# Altium footprint library INTAN_AFE_V003.PcbLib: 77 footprints (part 3 of 5)
Each footprint in its own frame and in the unit in brackets; x right, y up, seen from the top. Pads: shape width x height; smd on the part's side, far side on the other; paste and mask are expansions set on the pad; w line width, h text height; cw(c..) or ccw(c..) is an arc to the next point about the centre after c.
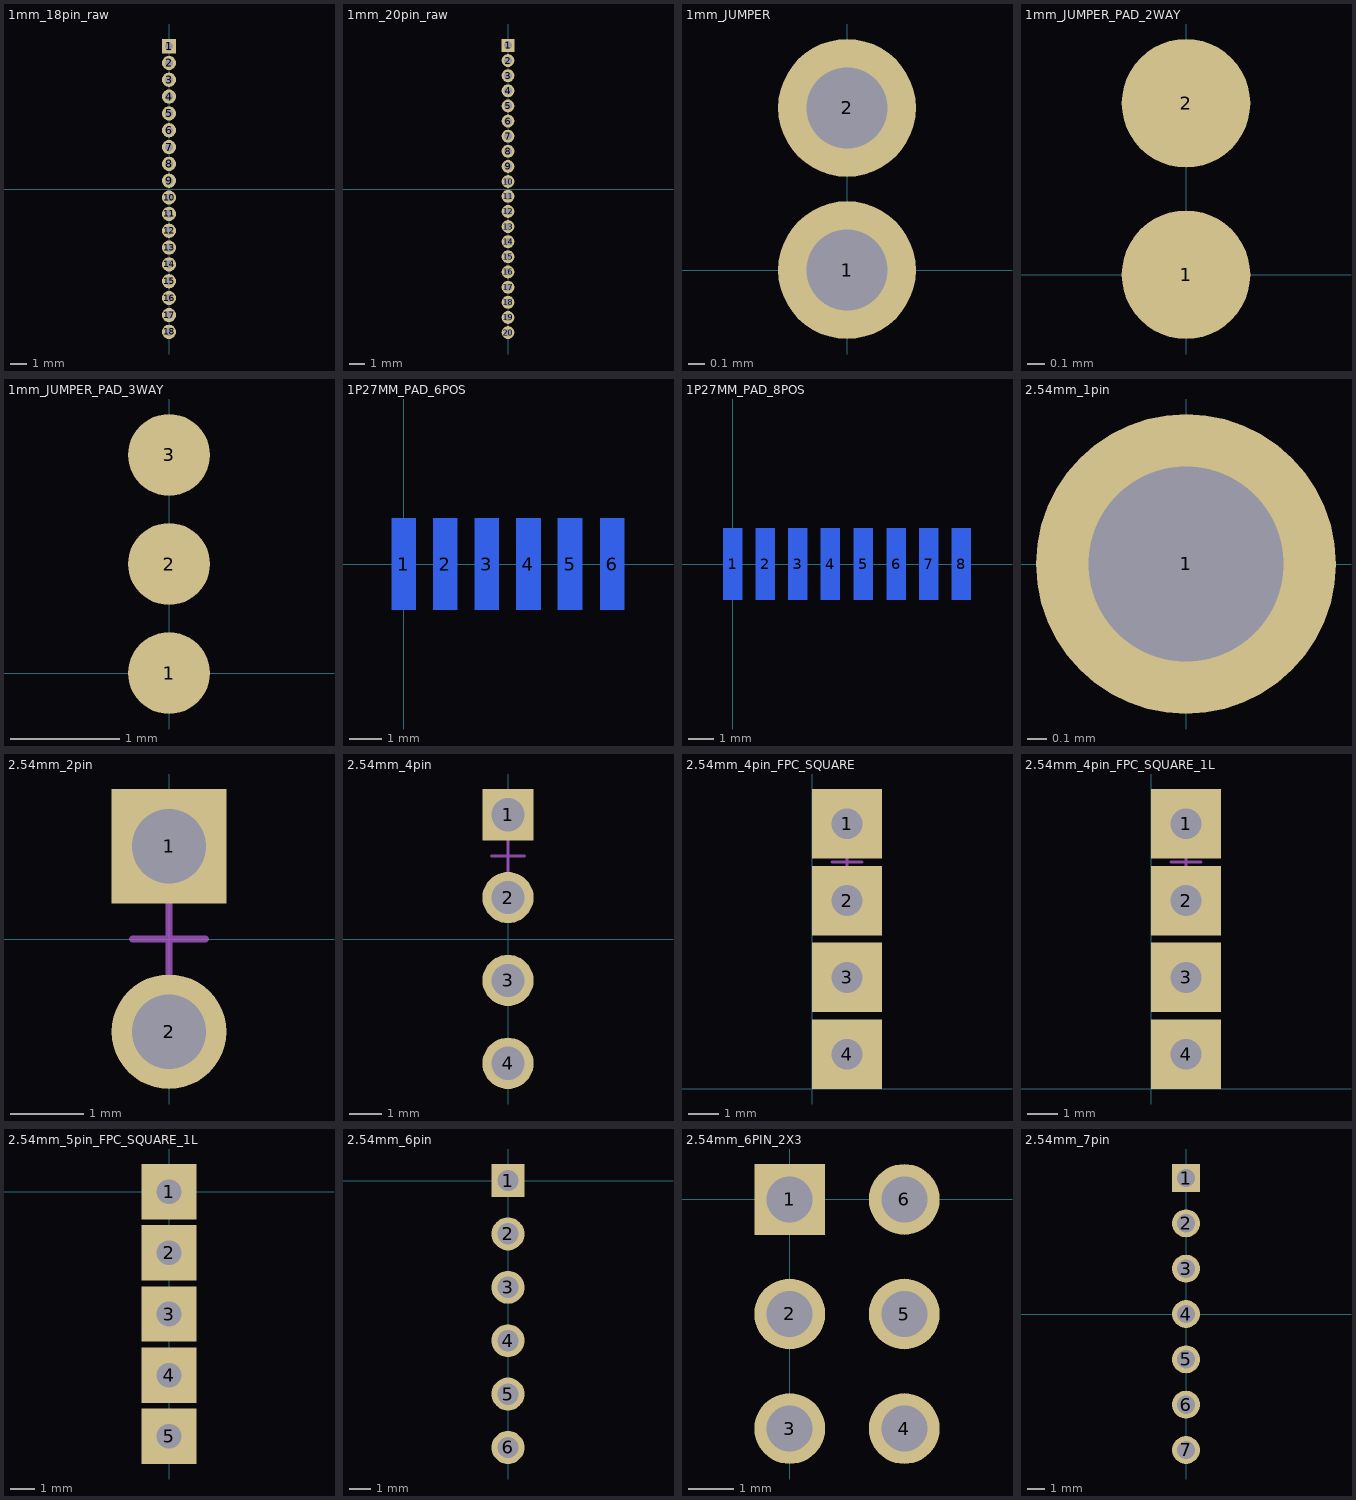
[diagram p2: the footprints below, top view; thin cyan lines are the x and y axes]

## 1mm_18pin_raw [mm]
pads (18):
  rect 0.85x0.85 hole 0.5: 1(0,8.494)
  round 0.85 hole 0.5: 2(0,7.494) 3(0,6.494) 4(0,5.494) 5(0,4.494) 6(0,3.494) 7(0,2.494) 8(0,1.494) 9(0,0.494) 10(0,-0.506) 11(0,-1.483) 12(0,-2.483) 13(0,-3.483) 14(0,-4.483) 15(0,-5.483) 16(0,-6.483) 17(0,-7.494) 18(0,-8.494)

## 1mm_20pin_raw [mm]
pads (20):
  rect 0.85x0.85 hole 0.5: 1(0,9.494)
  round 0.85 hole 0.5: 2(0,8.494) 3(0,7.494) 4(0,6.494) 5(0,5.494) 6(0,4.494) 7(0,3.494) 8(0,2.494) 9(0,1.494) 10(0,0.494) 11(0,-0.483) 12(0,-1.483) 13(0,-2.483) 14(0,-3.483) 15(0,-4.483) 16(0,-5.483) 17(0,-6.494) 18(0,-7.494) 19(0,-8.494) 20(0,-9.494)

## 1mm_JUMPER [mm]
pads (2):
  round 0.85 hole 0.5: 1(0,0) 2(0,1)

## 1mm_JUMPER_PAD_2WAY [mm]
pads (2):
  round 0.75 smd mask+0.102: 1(0,0) 2(0,1)

## 1mm_JUMPER_PAD_3WAY [mm]
pads (3):
  round 0.75 smd: 1(0,0) 2(0,1) 3(0,2)

## 1P27MM_PAD_6POS [mm]
pads (6):
  rect 0.74x2.79 smd far side: 1(0,0) 2(1.27,0) 3(2.54,0) 4(3.81,0) 5(5.08,0) 6(6.37,0)

## 1P27MM_PAD_8POS [mm]
pads (8):
  rect 0.74x2.79 smd far side: 1(0,0) 2(1.27,0) 3(2.54,0) 4(3.81,0) 5(5.08,0) 6(6.37,0) 7(7.64,0) 8(8.91,0)

## 2.54mm_1pin [mm]
pads (1):
  round 1.57 hole 1.02 paste-1000 mask+0: 1(0,0)

## 2.54mm_2pin [mm]
pads (2):
  rect 1.57x1.57 hole 1.02 paste-1000 mask+0: 1(0,1.27)
  round 1.57 hole 1.02 paste-1000 mask+0: 2(0,-1.27)
Top Component Center:
  lines w0.1: -0.5,0 0.5,0 ; 0,-0.5 0,0.5

## 2.54mm_4pin [mm]
pads (4):
  rect 1.57x1.57 hole 1.02 paste-1000 mask+0: 1(0,3.81)
  round 1.57 hole 1.02 paste-1000 mask+0: 2(0,1.27) 3(0,-1.27) 4(0,-3.81)
Top Component Center:
  lines w0.1: -0.5,2.54 0.5,2.54 ; 0,2.04 0,3.04

## 2.54mm_4pin_FPC_SQUARE [mm]
pads (4):
  rect 2.3x2.3 hole 1.02 paste-1000 mask+0: 1(1.143,8.763) 2(1.143,6.223) 3(1.143,3.683) 4(1.143,1.143)
Top Component Center:
  lines w0.1: 0.643,7.493 1.643,7.493 ; 1.143,6.993 1.143,7.993

## 2.54mm_4pin_FPC_SQUARE_1L [mm]
pads (4):
  rect 2.3x2.3 smd paste-1000 mask+0: 1(1.143,8.763) 2(1.143,6.223) 3(1.143,3.683) 4(1.143,1.143)
via 1.143,1.143 diameter 1.27 hole 1.02
via 1.143,3.683 diameter 1.27 hole 1.02
via 1.143,6.223 diameter 1.27 hole 1.02
via 1.143,8.763 diameter 1.27 hole 1.02
Top Component Center:
  lines w0.1: 0.643,7.493 1.643,7.493 ; 1.143,6.993 1.143,7.993

## 2.54mm_5pin_FPC_SQUARE_1L [mm]
pads (5):
  rect 2.3x2.3 smd paste-1000 mask+0: 1(0,0) 2(0,-2.54) 3(0,-5.08) 4(0,-7.62) 5(0,-10.16)
via 0,-10.16 diameter 1.35 hole 1.02
via 0,0 diameter 1.35 hole 1.02
via 0,-2.54 diameter 1.35 hole 1.02
via 0,-5.08 diameter 1.35 hole 1.02
via 0,-7.62 diameter 1.35 hole 1.02

## 2.54mm_6pin [mm]
pads (6):
  rect 1.57x1.57 hole 1.02 paste-1000 mask+0: 1(0,0)
  round 1.57 hole 1.02 paste-1000 mask+0: 2(0,-2.54) 3(0,-5.08) 4(0,-7.62) 5(0,-10.16) 6(0,-12.7)

## 2.54mm_6PIN_2X3 [mm]
pads (6):
  rect 1.57x1.57 hole 1.02 paste-1000 mask+0: 1(0,0)
  round 1.57 hole 1.02 paste-1000 mask+0: 2(0,-2.54) 3(0,-5.08) 4(2.54,-5.08) 5(2.54,-2.54) 6(2.54,0)

## 2.54mm_7pin [mm]
pads (7):
  rect 1.57x1.57 hole 1.02 paste-1000 mask+0: 1(0,7.62)
  round 1.57 hole 1.02 paste-1000 mask+0: 2(0,5.08) 3(0,2.54) 4(0,0) 5(0,-2.54) 6(0,-5.08) 7(0,-7.62)